# Altium footprint library SDC.PcbLib: 10 footprints
Each footprint in its own frame and in the unit in brackets; x right, y up, seen from the top. Pads: shape width x height; smd on the part's side, far side on the other; paste and mask are expansions set on the pad; w line width, h text height; cw(c..) or ccw(c..) is an arc to the next point about the centre after c.
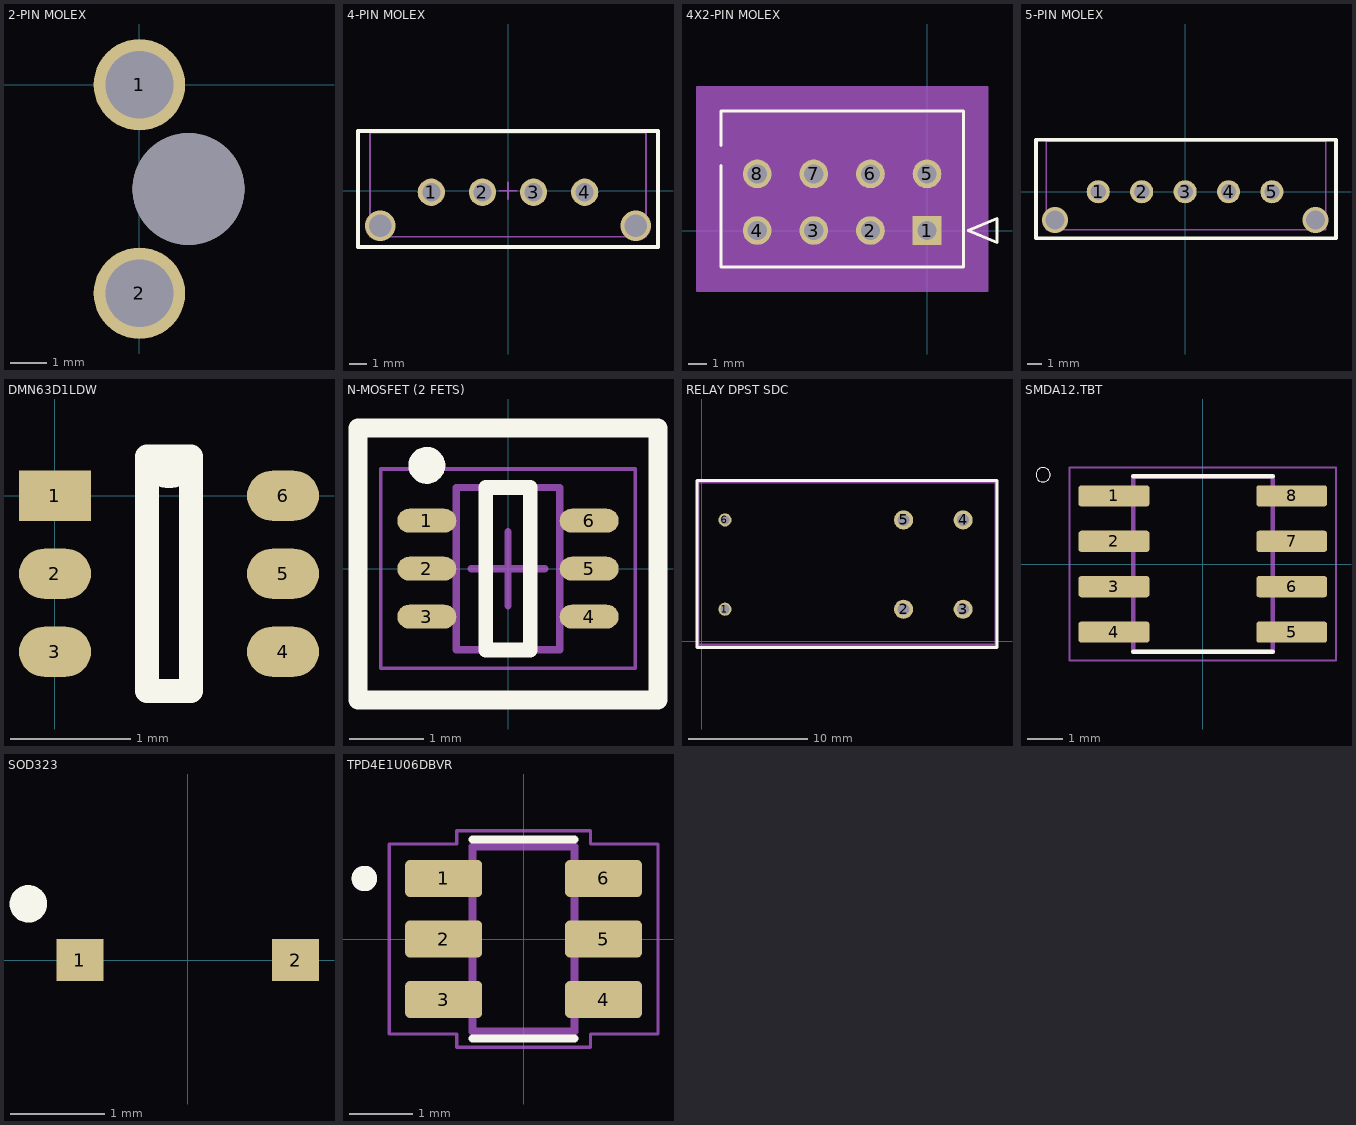
[diagram p0: the footprints below, top view; thin cyan lines are the x and y axes]

## 2-PIN MOLEX [mm]
pads (3):
  round 2.5 hole 1.85: 1(0,0) 2(0,-5.7)
  round 3.05 hole 3.05: ""(1.34,-2.85)
3D body "2002411112.step": height 17.49, standoff -3.24, extent -7.205,-8.725 3.395,3.325

## 4-PIN MOLEX [mm]
pads (4):
  round 1.6 hole 1.06: 1(-4.5,-0.09) 2(-1.5,-0.09) 3(1.5,-0.09) 4(4.5,-0.09)
via 7.5,-2.05 diameter 1.8 hole 1.32
via -7.5,-2.05 diameter 1.8 hole 1.32
Top Overlay:
  lines w0.254: -8.8,-3.3 8.8,-3.3 8.8,3.5 -8.8,3.5 -8.8,-3.3
Mechanical 15:
  lines w0.1: -0.5,0 0.5,0 ; 0,-0.5 0,0.5 ; -8.1,-2.7 -8.1,3.4 8.1,3.4 8.1,-2.7 -8.1,-2.7
3D body "436500428.stp": height 9.95, standoff -3.13, extent -7.825,-2.47 7.825,3.135

## 4X2-PIN MOLEX [mm]
pads (8):
  rect 1.52x1.52 hole 1.016 mask+0.076: 1(0,0)
  round 1.52 hole 1.016 mask+0.076: 2(-3,0) 3(-6,0) 4(-9,0) 5(0,3) 6(-3,3) 7(-6,3) 8(-9,3)
Top Overlay:
  lines w0.152: -10.92,3.451 -10.92,-1.93 1.93,-1.93 1.93,6.33 -10.92,6.33 -10.92,4.509 ; 2.184,0 3.708,0.635 3.708,-0.635 2.184,0
Mechanical 13:
  lines w0.127: -10.92,-1.93 1.93,-1.93 1.93,6.33 -10.92,6.33 -10.92,-1.93 ; 2.184,0 3.708,0.635 3.708,-0.635 2.184,0
Mechanical 15:
  region: 3.2,7.6 -12.19,7.6 -12.19,-3.2 3.2,-3.2
  lines w0.127: -12.19,-3.2 -12.19,7.6 3.2,7.6 3.2,-3.2 -12.19,-3.2
3D body: height 0.25, standoff 0, extent 0,0 0.254,0.254

## 5-PIN MOLEX [mm]
pads (5):
  round 1.6 hole 1.06: 1(-6,0) 2(-3,0) 3(0,0) 4(3,0) 5(6,0)
via 9,-1.96 diameter 1.8 hole 1.32
via -9,-1.96 diameter 1.8 hole 1.32
Top Overlay:
  lines w0.254: -10.3,-3.21 10.425,-3.21 10.425,3.59 -10.3,3.59 -10.3,-3.21
Mechanical 15:
  lines w0.1: -0.5,0 0.5,0 ; 0,-0.5 0,0.5 ; -9.6,-2.61 -9.6,3.49 9.7,3.49 9.7,-2.61 -9.6,-2.61
3D body "436500528.step": height 9.95, standoff -3.13, extent -9.32,-2.47 9.32,3.135

## DMN63D1LDW [mm]
pads (6):
  rect 0.6x0.42 smd: 1(0,0)
  oval 0.6x0.42 smd: 2(0,-0.65) 3(0,-1.3) 4(1.9,-1.3) 5(1.9,-0.65) 6(1.9,0)
Top Overlay:
  lines w0.2: 0.765,-1.625 0.765,0.325 1.112,0.325 cw(c0.95,0.325) 0.787,0.325 1.135,0.325 1.135,-1.625 0.765,-1.625

## N-MOSFET (2 FETS) [mm] "TSOP, 6-Leads, Body 2.00x1.25mm, Pitch 0.65mm, IPC Medium Density"
height 0.1
pads (6):
  oval 0.8x0.325 smd: 1(-1.1,0.65) 2(-1.1,0) 3(-1.1,-0.65) 4(1.1,-0.65) 5(1.1,0) 6(1.1,0.65)
Top Overlay:
  circle w0.25: c-1.1,1.4 r0.125
  lines w0.2: -0.3,-1.1 0.3,-1.1 0.3,1.1 -0.3,1.1 -0.3,-1.1
  lines w0.254: -2.032,-1.778 2.032,-1.778 2.032,1.905 -2.032,1.905 -2.032,-1.778
Mechanical 13:
  lines w0.1: -0.7,-1.1 0.7,-1.1 0.7,1.1 -0.7,1.1 -0.7,-1.1
Mechanical 15:
  lines w0.05: -1.725,-1.35 1.725,-1.35 1.725,1.35 -1.725,1.35 -1.725,-1.35
  lines w0.1: -0.5,0 0.5,0 ; 0,-0.5 0,0.5
3D body "TSOP65P210X10-6N.step": height 1.1, standoff 0, extent -1.05,-1.1 1.05,1.1

## RELAY DPST SDC [mm]
pads (6):
  round 1.1 hole 0.762: 1(1.95,2.7) 6(1.95,10.2)
  round 1.6 hole 1: 2(16.95,2.7) 3(21.95,2.7) 4(21.95,10.2) 5(16.95,10.2)
Top Overlay:
  lines w0.254: -0.4,-0.5 -0.4,13.5 24.8,13.5 24.8,-0.5 -0.4,-0.5
Mechanical 15:
  lines w0.254: -0.3,-0.3 24.7,-0.3 24.7,13.4 -0.3,13.4 -0.3,-0.3
3D body "1891796_osa-ss-224dm3_000.stp": height 24.51, standoff -4.29, extent 0,0 24.4,12.9
3D body: height 0.25, standoff 0, extent 0,0 24.4,12.9

## SMDA12.TBT [mm]
pads (8):
  rrect25% 1.98x0.59 smd: 1(-2.485,1.905) 2(-2.485,0.635) 3(-2.485,-0.635) 4(-2.485,-1.905) 5(2.485,-1.905) 6(2.485,-0.635) 7(2.485,0.635) 8(2.485,1.905)
Top Overlay:
  circle w0: c-4.465,2.495 r0.2
  lines w0.127: -1.95,-2.45 1.95,-2.45 ; -1.95,2.45 1.95,2.45
Mechanical 13:
  circle w0: c-4.465,2.495 r0.2
  lines w0.127: -1.95,-2.45 -1.95,2.45 1.95,2.45 1.95,-2.45 -1.95,-2.45
Mechanical 15:
  lines w0.05: -3.725,-2.7 -3.725,2.7 3.725,2.7 3.725,-2.7 -3.725,-2.7

## SOD323 [mm]
pads (2):
  rect 0.5x0.45 smd: 1(-1.15,0) 2(1.15,0)
Top Overlay:
  circle w0.2: c-1.7,0.6 r0.1

## TPD4E1U06DBVR [mm]
pads (6):
  rrect25% 1.21x0.58 smd: 1(-1.255,0.95) 2(-1.255,0) 3(-1.255,-0.95) 4(1.255,-0.95) 5(1.255,0) 6(1.255,0.95)
Top Overlay:
  circle w0.2: c-2.5,0.95 r0.1
  lines w0.127: -0.8,-1.56 0.8,-1.56 ; -0.8,1.56 0.8,1.56
Mechanical 13:
  circle w0.2: c-2.5,0.95 r0.1
  lines w0.127: -0.8,-1.45 0.8,-1.45 0.8,1.45 -0.8,1.45 -0.8,-1.45
Mechanical 15:
  lines w0.05: -2.11,-1.49 -1.05,-1.49 -1.05,-1.7 1.05,-1.7 1.05,-1.49 2.11,-1.49 2.11,1.49 1.05,1.49 1.05,1.7 -1.05,1.7 -1.05,1.49 -2.11,1.49 -2.11,-1.49
3D body "TPD4E1U06DBVR.STEP": height 1.45, standoff 0, extent -1.35,-1.45 1.45,1.45